# EAGLE library part RFM69 (library X893)
http://www.hoperf.com/rf/fsk_module/RFM69HW.htm
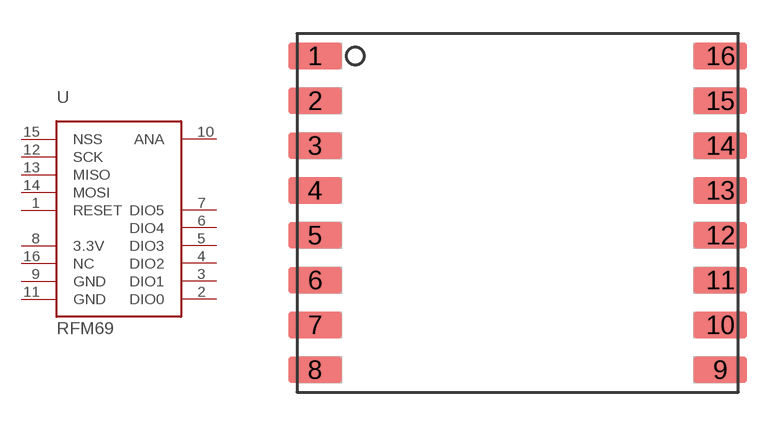
[diagram p201: symbol with the pads of RFM69; footprint RFM69]

Designator prefix U

## RFM69  [RFM69]
1  RESET  in
2  DIO0
3  DIO1
4  DIO2
5  DIO3
6  DIO4
7  DIO5
8  3.3V  pwr
9  GND  pwr
10  ANA  pas
11  GND  pwr
12  SCK  in
13  MISO  out
14  MOSI  in
15  NSS  in
16  NC  nc

## Footprint RFM69 (pad centres in mm)
smd 2.4 x 1.2: 1 -9.05,7; 2 -9.05,5; 3 -9.05,3; 4 -9.05,1; 5 -9.05,-1; 6 -9.05,-3; 7 -9.05,-5; 8 -9.05,-7; 9 9.05,-7; 10 9.05,-5; 11 9.05,-3; 12 9.05,-1; 13 9.05,1; 14 9.05,3; 15 9.05,5; 16 9.05,7